# Altium integrated library LM2907N_NOPB.IntLib: 1 symbol
Pins are listed as number, name and electrical type; pins without a type are passive.

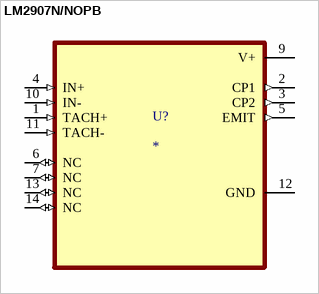
[diagram p0: symbol LM2907N/NOPB]

## LM2907N/NOPB
designator U?
Frequency to Voltage Converter for ground or supply referred load up to 50-mA 14-PDIP -40 to 85; MF: Texas Instruments; MP: LM2907N/NOPB; Check_prices: https://www.snapeda.com/parts/LM2907N/NOPB/Texas+Instruments/view-part/?ref=eda; Package: PDIP-14 Texas Instruments; Digi-Key_Part_Number: LM2907N/NOPB-ND; Purchase-URL: https://pricing.snapeda.com/search/part/LM2907N/NOPB/?ref=eda; Value: *; SnapEDA_Link: https://www.snapeda.com/parts/LM2907N/NOPB/Texas+Instruments/view-part/?ref=snap
footprint DIP825W45P254L1905H9015Q14
pins: 1 TACH+ (in), 2 CP1 (out), 3 CP2 (out), 4 IN+ (in), 5 EMIT (out), 6 NC (io), 7 NC (io), 9 V+ (power), 10 IN- (in), 11 TACH- (in), 12 GND (power), 13 NC (io), 14 NC (io)